# Altium schematic symbol library CRCW0805330RFKEAC.SchLib: 1 symbol
Pins are listed as number, name and electrical type; pins without a type are passive.

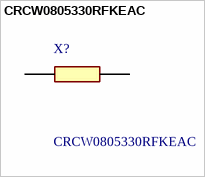
[diagram p0: symbol CRCW0805330RFKEAC]

## CRCW0805330RFKEAC
designator X?
Thick Film Resistors - SMD 1/8Watt 330ohms 1% Commercial Use; Manufacturer_Name: Vishay; Geometry.Height: 0.6mm; Manufacturer_Part_Number: CRCW0805330RFKEAC; Mouser Part Number: 71-CRCW0805330RFKEAC; Mouser Price/Stock: https://www.mouser.co.uk/ProductDetail/Vishay-Dale/CRCW0805330RFKEAC?qs=E3Y5ESvWgWP1MWN1ZM0eVg%3D%3D; Arrow Part Number: CRCW0805330RFKEAC; Arrow Price/Stock: https://www.arrow.com/en/products/crcw0805330rfkeac/vishay?region=nac; Datasheet Link: https://mouser.componentsearchengine.com/Datasheets/1/CRCW0805330RFKEAC.pdf
footprint RESC2012X60N
pins: 1, 2